# Altium schematic symbol library SCH - PASSIVES - COMMON MODE CHOKE 12 _ 43.Schlib: 1 symbol
Pins are listed as number, name and electrical type; pins without a type are passive.

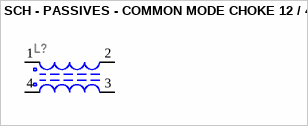
[diagram p0: symbol SCH - PASSIVES - COMMON MODE CHOKE 12 / 43]

## SCH - PASSIVES - COMMON MODE CHOKE 12 / 43
designator L?
footprint Common Mode Choke 1812 (Data and signal line chokes)
pins: 1, 2, 3, 4